# EAGLE library part 54050CX (library murata)
XFRMR CURR SENSE 15A 1:1:50
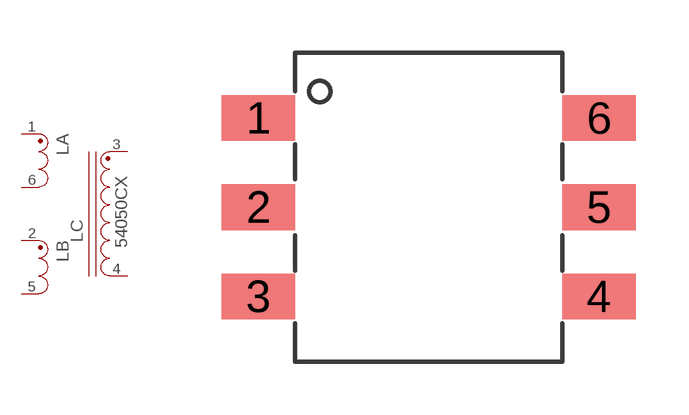
[diagram p3: symbol with the pads of GULLWING; footprint GULLWING]

Designator prefix L; gates A=54050CA B=54050CA C=54050CB

## 54050CX (DIGIKEY: 811-1197-1-ND; MFR: Murata Power Solutions; MPN: 54050c; P1I: o)  [GULLWING]
1  A:P1
2  B:P1
3  C:S1
4  C:S2
5  B:P2
6  A:P2

## Footprint GULLWING (pad centres in mm)
smd 2.1 x 1.3: 1 -4.85,2.54; 2 -4.85,0; 3 -4.85,-2.54; 4 4.85,-2.54; 5 4.85,0; 6 4.85,2.54